# Altium integrated library BQ27441DRZR-G1A.IntLib: 1 symbol
Pins are listed as number, name and electrical type; pins without a type are passive.

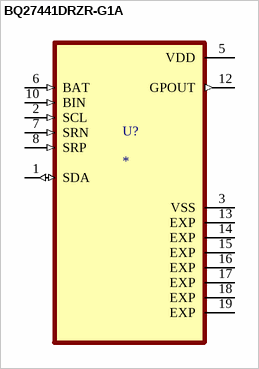
[diagram p0: symbol BQ27441DRZR-G1A]

## BQ27441DRZR-G1A
designator U?
System-side Impedance Track battery fuel (gas) gauge 12-SON -40 to 85; MP: BQ27441DRZR-G1A; MF: Texas Instruments; Value: *; SnapEDA_Link: https://www.snapeda.com/parts/BQ27441DRZR-G1A/Texas%20Instruments/view-part/331244/?ref=snap; Package: VSON-12 Texas Instruments; Check_prices: https://www.snapeda.com/parts/BQ27441DRZR-G1A/Texas%20Instruments/view-part/331244/?ref=eda; Digi-Key_Part_Number: 296-39941-1-ND; Purchase-URL: https://pricing.snapeda.com/search/part/BQ27441DRZR-G1A/?ref=eda
footprint IC_BQ27441DRZR-G1A
pins: 1 SDA (io), 2 SCL (in), 3 VSS (power), 5 VDD (power), 6 BAT (in), 7 SRN (in), 8 SRP (in), 10 BIN (in), 12 GPOUT (out), 13 EXP (power), 14 EXP (power), 15 EXP (power), 16 EXP (power), 17 EXP (power), 18 EXP (power), 19 EXP (power)